# EAGLE library part 6N137 (library deiring-components)
Optocoupler
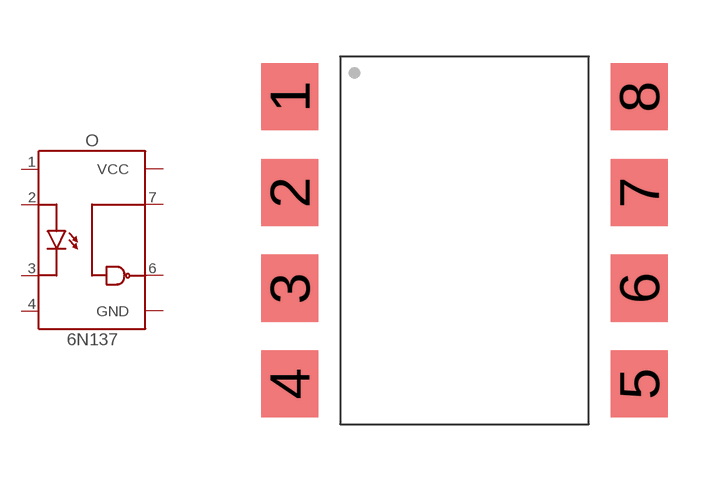
[diagram p17: symbol with the pads of SMD-8; footprint SMD-8]

Designator prefix O

## 6N137-SMD-8 (LCSC: C110020; MF: Everlight Elec; MPN: 6N137S1(TA); VALUE: 6N137)  [SMD-8]
1  NC  nc
2  A  pas
3  C  pas
4  NC  nc
5  GND  pwr
6  VO  pas
7  VE  pas
8  VCC  pwr

## Footprint SMD-8 (pad centres in mm)
smd 1.52 x 1.78: 1 -4.635,3.81; 2 -4.635,1.27; 3 -4.635,-1.27; 4 -4.635,-3.81; 5 4.635,-3.81; 6 4.635,-1.27; 7 4.635,1.27; 8 4.635,3.81